# Altium footprint library PCB11.PcbLib: 19 footprints (part 2 of 2)
Each footprint in its own frame and in the unit in brackets; x right, y up, seen from the top. Pads: shape width x height; smd on the part's side, far side on the other; paste and mask are expansions set on the pad; w line width, h text height; cw(c..) or ccw(c..) is an arc to the next point about the centre after c.
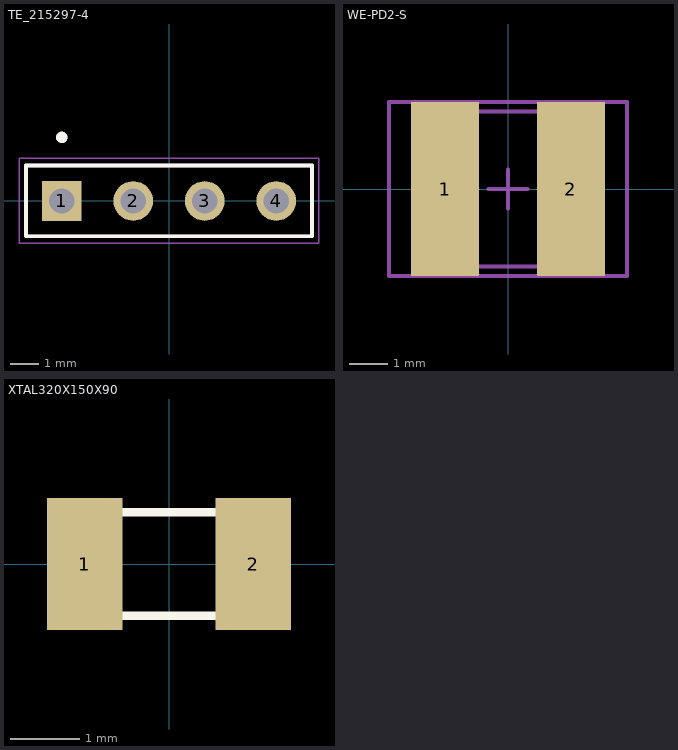
[diagram p1: the footprints below, top view; thin cyan lines are the x and y axes]

## TE_215297-4 [mm]
pads (4):
  rect 1.408x1.408 hole 0.9: 1(-3.81,0)
  round 1.408 hole 0.9: 2(-1.27,0) 3(1.27,0) 4(3.81,0)
Top Overlay:
  circle w0.2: c-3.81,2.26 r0.1
  lines w0.127: -5.08,-1.26 -5.08,1.26 5.08,1.26 5.08,-1.26 -5.08,-1.26
Mechanical 13:
  circle w0.2: c-3.81,2.26 r0.1
  lines w0.127: -5.08,-1.26 -5.08,1.26 5.08,1.26 5.08,-1.26 -5.08,-1.26
Mechanical 15:
  lines w0.05: -5.33,-1.51 -5.33,1.51 5.33,1.51 5.33,-1.51 -5.33,-1.51
3D body "step_temp.STEP": height 1.26, standoff -1.26, extent -5.08,0 5.08,10

## WE-PD2-S [mm]
pads (2):
  rect 1.75x4.5 smd: 1(-1.625,0) 2(1.625,0)
Mechanical 13:
  lines w0.1: -2.25,-2 -2.25,2 2.25,2 2.25,-2 -2.25,-2
Mechanical 15:
  lines w0.1: -0.5,0 0.5,0 ; 0,-0.5 0,0.5 ; -3.075,-2.25 -3.075,2.25 3.075,2.25 3.075,-2.25 -3.075,-2.25
3D body "744773014.stp": height 3.17, standoff -0.01, extent -2.231,-2 2.231,2

## XTAL320X150X90 [mil]
pads (2):
  rect 43x75 smd: 1(-48,0) 2(48,0)
Top Overlay:
  lines w5: -63,-29.5 -63,29.5 63,29.5 63,-29.5 -63,-29.5
3D body "step_temp.STEP": height 35.43, standoff 0, extent -62.99,-29.53 62.99,29.53